# Altium schematic symbol library TPS7133QPG4.SchLib: 2 symbols
Pins are listed as number, name and electrical type; pins without a type are passive.

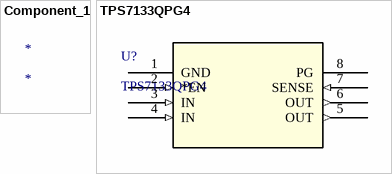
[diagram p0: symbols Component_1 to TPS7133QPG4]

## Component_1
designator *

## TPS7133QPG4
designator U?
No Description Available; Mfr_Name: Texas Instruments; Copyright: Copyright (C) 2022 Ultra Librarian. All rights reserved.; Manufacturer_Part_Number: TPS7133QPG4; Digi-Key_Part_Number_1: TPS7133QPG4-ND; Digi-Key_Part_Number_2: 296-8046-5-ND; RefDes: RefDes; Type: DEV
footprint P8_TEX
pins: 1 GND, 2 *EN (in), 3 IN (in), 4 IN (in), 5 OUT (out), 6 OUT (out), 7 SENSE (in), 8 PG